# Altium footprint library CS_footprints.PcbLib: 90 footprints (part 2 of 6)
Each footprint in its own frame and in the unit in brackets; x right, y up, seen from the top. Pads: shape width x height; smd on the part's side, far side on the other; paste and mask are expansions set on the pad; w line width, h text height; cw(c..) or ccw(c..) is an arc to the next point about the centre after c.
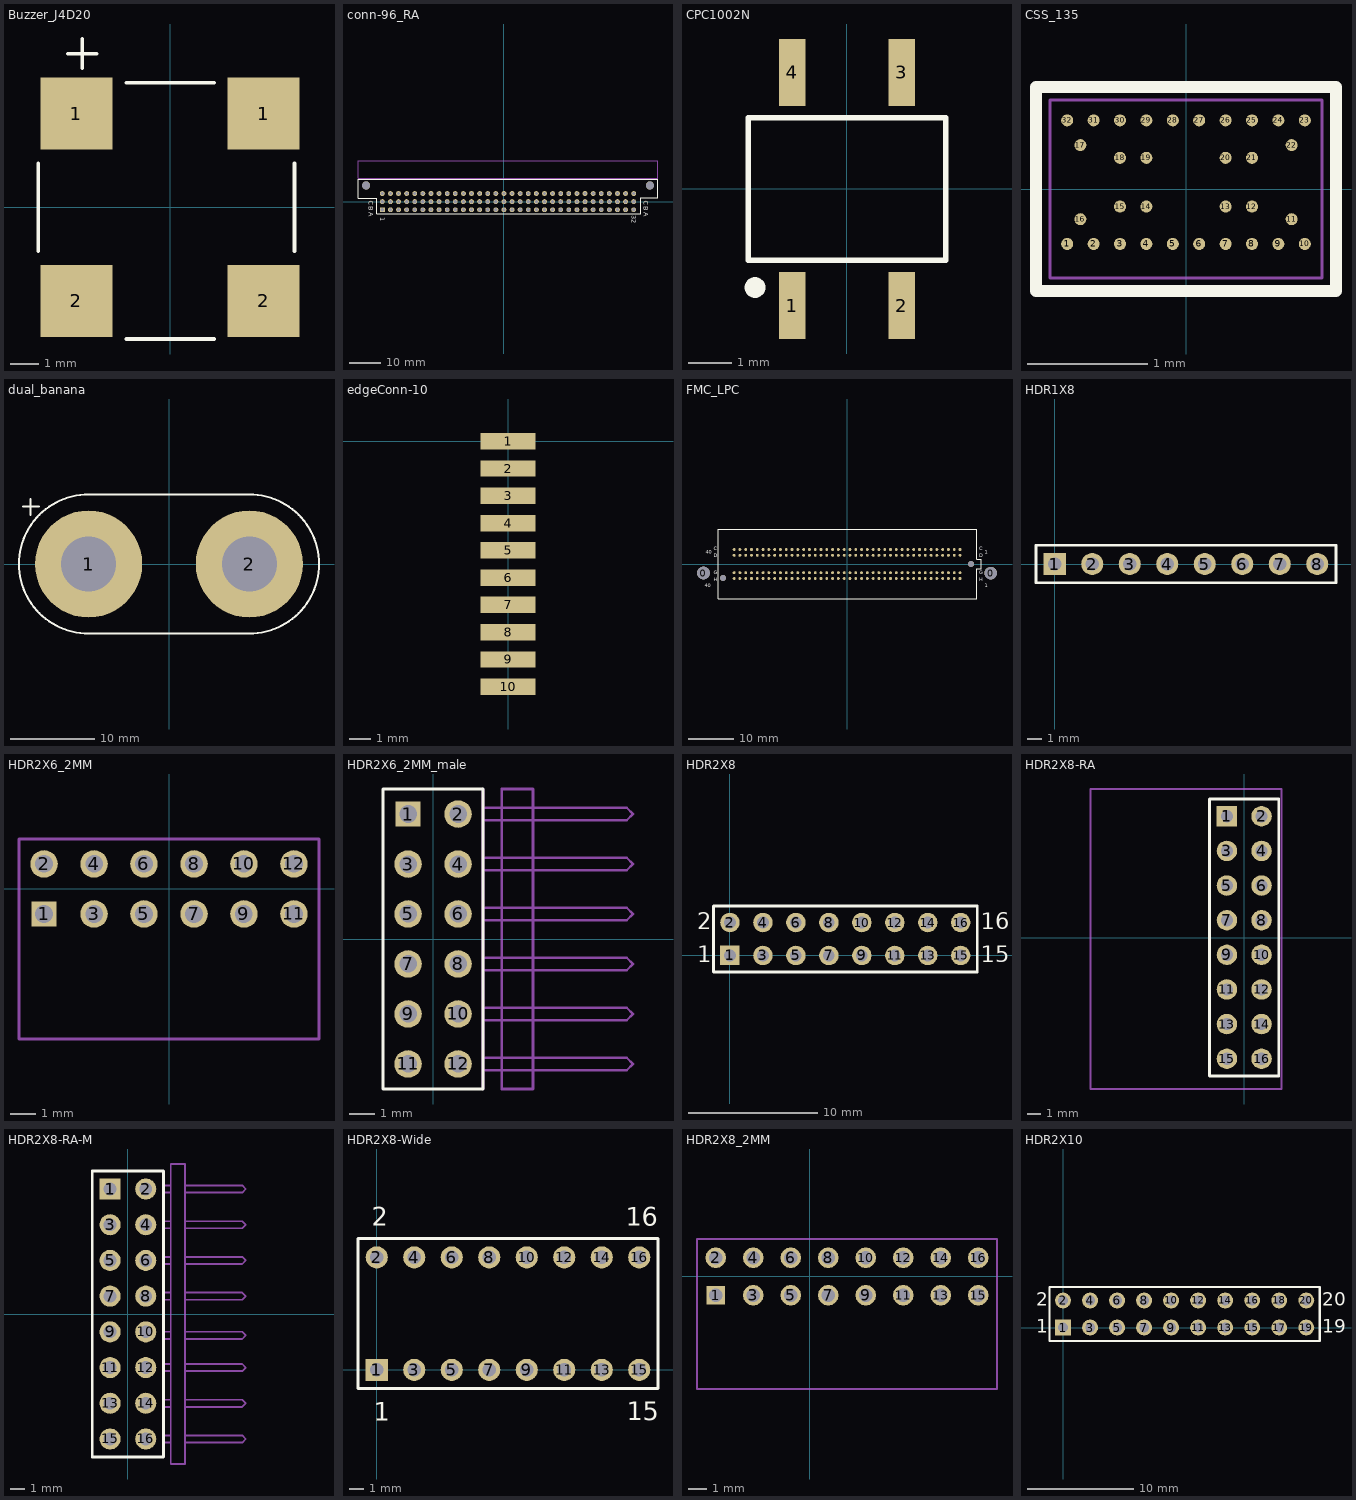
[diagram p1: the footprints below, top view; thin cyan lines are the x and y axes]

## Buzzer_J4D20 [mm] "AUDIO MAGNETIC XDCR 3-5V SMD"
pads (4):
  rect 2.5x2.5 smd: 1(-3.25,3.25) 1(3.25,3.25) 2(-3.25,-3.25) 2(3.25,-3.25)
Top Overlay:
  lines w0.127: -4.572,-1.524 -4.572,1.524 ; -3.556,5.334 -2.54,5.334 ; -3.048,4.826 -3.048,5.842 ; -1.524,-4.572 1.524,-4.572 ; -1.524,4.318 1.524,4.318 ; 4.318,-1.524 4.318,1.524

## conn-96_RA [mil] "96-pin connector, 3 rows, right angle"
pads (98):
  rect 60x60 hole 40: A1(-1500,-100)
  round 60 hole 40: A2(-1400,-100) A3(-1300,-100) A4(-1200,-100) A5(-1100,-100) A6(-1000,-100) A7(-900,-100) A8(-800,-100) A9(-700,-100) A10(-600,-100) A11(-500,-100) A12(-400,-100) A13(-300,-100) A14(-200,-100) A15(-100,-100) A16(0,-100) A17(100,-100) A18(200,-100) A19(300,-100) A20(400,-100) A21(500,-100) A22(600,-100) A23(700,-100) A24(800,-100) A25(900,-100) A26(1000,-100) A27(1100,-100) A28(1200,-100) A29(1300,-100) A30(1400,-100) A31(1500,-100) A32(1600,-100) B1(-1500,0) B2(-1400,0) B3(-1300,0) B4(-1200,0) B5(-1100,0) B6(-1000,0) B7(-900,0) B8(-800,0) B9(-700,0) B10(-600,0) B11(-500,0) B12(-400,0) B13(-300,0) B14(-200,0) B15(-100,0) B16(0,0) B17(100,0) B18(200,0) B19(300,0) B20(400,0) B21(500,0) B22(600,0) B23(700,0) B24(800,0) B25(900,0) B26(1000,0) B27(1100,0) B28(1200,0) B29(1300,0) B30(1400,0) B31(1500,0) B32(1600,0) C1(-1500,100) C2(-1400,100) C3(-1300,100) C4(-1200,100) C5(-1100,100) C6(-1000,100) C7(-900,100) C8(-800,100) C9(-700,100) C10(-600,100) C11(-500,100) C12(-400,100) C13(-300,100) C14(-200,100) C15(-100,100) C16(0,100) C17(100,100) C18(200,100) C19(300,100) C20(400,100) C21(500,100) C22(600,100) C23(700,100) C24(800,100) C25(900,100) C26(1000,100) C27(1100,100) C28(1200,100) C29(1300,100) C30(1400,100) C31(1500,100) C32(1600,100)
  round 100 hole 100: C33(-1700,200) C34(1800,200)
Top Overlay:
  lines w10: -1800,40 -1800,275 1900,275 1900,50 1690,50 1690,-150 1650,-150 -1570,-150 -1570,40 -1800,40
  text "C" at 1726,10 h60
  text "B" at 1726,-59 h60
  text "A" at 1726,-133 h60
  text "A" at -1666,-132 h60
  text "B" at -1666,-58 h60
  text "C" at -1666,11 h60
  text "32" at 1578,-169 h60
  text "1" at -1527,-190 h60
Assembly Top:
  lines w10: 1900,500 1900,290 -1800,290 -1800,502 1900,502

## CPC1002N [mil] "Optocoupler SMT"
pads (4):
  rect 24x61 smd: 1(-50,-106.5) 2(50,-106.5) 3(50,106.5) 4(-50,106.5)
Top Overlay:
  circle w10: c-84,-90 r4.47
  lines w5: -90,-65 90,-65 90,65 -90,65 -90,-65

## CSS_135 [mm] "BGA footprint for CSS135 flip-chip IC"
pads (32):
  round 0.1 smd mask+0.05: 1(-0.99,-0.458) 2(-0.77,-0.458) 3(-0.55,-0.458) 4(-0.33,-0.458) 5(-0.11,-0.458) 6(0.11,-0.458) 7(0.33,-0.458) 8(0.55,-0.458) 9(0.77,-0.458) 10(0.99,-0.458) 11(0.88,-0.252) 12(0.55,-0.146) 13(0.33,-0.146) 14(-0.33,-0.146) 15(-0.55,-0.146) 16(-0.88,-0.252) 17(-0.88,0.366) 18(-0.55,0.26) 19(-0.33,0.26) 20(0.33,0.26) 21(0.55,0.26) 22(0.88,0.366) 23(0.99,0.572) 24(0.77,0.572) 25(0.55,0.572) 26(0.33,0.572) 27(0.11,0.572) 28(-0.11,0.572) 29(-0.33,0.572) 30(-0.55,0.572) 31(-0.77,0.572) 32(-0.99,0.572)
Top Overlay:
  lines w0.102: -1.25,-0.85 1.25,-0.85 1.25,0.85 -1.25,0.85 -1.25,-0.85
Assembly Top:
  lines w0.025: -1.135,-0.74 -1.135,0.74 1.135,0.74 1.135,-0.74 -1.135,-0.74

## dual_banana [mil] "dual banana jack - bolt-on"
pads (2):
  round 500 hole 257 mask+0: 1(-375,0) 2(375,0)
Top Overlay:
  lines w10: -681,269 -608,269 ; -646,229 -646,302 ; -375,-325 cw(c-375,0) -375,325 375,325 cw(c375,0) 375,-325 -375,-325

## edgeConn-10 [mil]
pads (10):
  rect 100x30 smd: 1(0,0) 2(0,-50) 3(0,-100) 4(0,-150) 5(0,-200) 6(0,-250) 7(0,-300) 8(0,-350) 9(0,-400) 10(0,-450)

## FMC_LPC [mm] "FMC low pin count connector that mates to Xilinx zedboard"
pads (164):
  round 2.8 hole 2.8 unplated mask+0: 0(-31.5,-1.985)
  round 1.27 hole 1.27 unplated mask+0: 0(-27.191,-3.048) 0(27.191,0)
  round 2.743 hole 2.743 unplated mask+0: 0(31.5,-1.985)
  round 0.635 smd mask+0: C1(24.765,3.175) C2(23.495,3.175) C3(22.225,3.175) C4(20.955,3.175) C5(19.685,3.175) C6(18.415,3.175) C7(17.145,3.175) C8(15.875,3.175) C9(14.605,3.175) C10(13.335,3.175) C11(12.065,3.175) C12(10.795,3.175) C13(9.525,3.175) C14(8.255,3.175) C15(6.985,3.175) C16(5.715,3.175) C17(4.445,3.175) C18(3.175,3.175) C19(1.905,3.175) C20(0.635,3.175) C21(-0.635,3.175) C22(-1.905,3.175) C23(-3.175,3.175) C24(-4.445,3.175) C25(-5.715,3.175) C26(-6.985,3.175) C27(-8.255,3.175) C28(-9.525,3.175) C29(-10.795,3.175) C30(-12.065,3.175) C31(-13.335,3.175) C32(-14.605,3.175) C33(-15.875,3.175) C34(-17.145,3.175) C35(-18.415,3.175) C36(-19.685,3.175) C37(-20.955,3.175) C38(-22.225,3.175) C39(-23.495,3.175) C40(-24.765,3.175) D1(24.765,1.905) D2(23.495,1.905) D3(22.225,1.905) D4(20.955,1.905) D5(19.685,1.905) D6(18.415,1.905) D7(17.145,1.905) D8(15.875,1.905) D9(14.605,1.905) D10(13.335,1.905) D11(12.065,1.905) D12(10.795,1.905) D13(9.525,1.905) D14(8.255,1.905) D15(6.985,1.905) D16(5.715,1.905) D17(4.445,1.905) D18(3.175,1.905) D19(1.905,1.905) D20(0.635,1.905) D21(-0.635,1.905) D22(-1.905,1.905) D23(-3.175,1.905) D24(-4.445,1.905) D25(-5.715,1.905) D26(-6.985,1.905) D27(-8.255,1.905) D28(-9.525,1.905) D29(-10.795,1.905) D30(-12.065,1.905) D31(-13.335,1.905) D32(-14.605,1.905) D33(-15.875,1.905) D34(-17.145,1.905) D35(-18.415,1.905) D36(-19.685,1.905) D37(-20.955,1.905) D38(-22.225,1.905) D39(-23.495,1.905) D40(-24.765,1.905) G1(24.765,-1.905) G2(23.495,-1.905) G3(22.225,-1.905) G4(20.955,-1.905) G5(19.685,-1.905) G6(18.415,-1.905) G7(17.145,-1.905) G8(15.875,-1.905) G9(14.605,-1.905) G10(13.335,-1.905) G11(12.065,-1.905) G12(10.795,-1.905) G13(9.525,-1.905) G14(8.255,-1.905) G15(6.985,-1.905) G16(5.715,-1.905) G17(4.445,-1.905) G18(3.175,-1.905) G19(1.905,-1.905) G20(0.635,-1.905) G21(-0.635,-1.905) G22(-1.905,-1.905) G23(-3.175,-1.905) G24(-4.445,-1.905) G25(-5.715,-1.905) G26(-6.985,-1.905) G27(-8.255,-1.905) G28(-9.525,-1.905) G29(-10.795,-1.905) G30(-12.065,-1.905) G31(-13.335,-1.905) G32(-14.605,-1.905) G33(-15.875,-1.905) G34(-17.145,-1.905) G35(-18.415,-1.905) G36(-19.685,-1.905) G37(-20.955,-1.905) G38(-22.225,-1.905) G39(-23.495,-1.905) G40(-24.765,-1.905) H1(24.765,-3.175) H2(23.495,-3.175) H3(22.225,-3.175) H4(20.955,-3.175) H5(19.685,-3.175) H6(18.415,-3.175) H7(17.145,-3.175) H8(15.875,-3.175) H9(14.605,-3.175) H10(13.335,-3.175) H11(12.065,-3.175) H12(10.795,-3.175) H13(9.525,-3.175) H14(8.255,-3.175) H15(6.985,-3.175) H16(5.715,-3.175) H17(4.445,-3.175) H18(3.175,-3.175) H19(1.905,-3.175) H20(0.635,-3.175) H21(-0.635,-3.175) H22(-1.905,-3.175) H23(-3.175,-3.175) H24(-4.445,-3.175) H25(-5.715,-3.175) H26(-6.985,-3.175) H27(-8.255,-3.175) H28(-9.525,-3.175) H29(-10.795,-3.175) H30(-12.065,-3.175) H31(-13.335,-3.175) H32(-14.605,-3.175) H33(-15.875,-3.175) H34(-17.145,-3.175) H35(-18.415,-3.175) H36(-19.685,-3.175) H37(-20.955,-3.175) H38(-22.225,-3.175) H39(-23.495,-3.175) H40(-24.765,-3.175)
Top Overlay:
  lines w0.127: -28.194,-7.62 28.448,-7.62 28.448,-1.016 29.464,-1.016 29.464,1.016 28.448,1.016 28.448,7.366 28.448,7.62 -28.194,7.62 -28.194,-7.62
  text "C" at -29.21,3.048 h0.76
  text "D" at -29.21,1.524 h0.76
  text "G" at -29.21,-2.286 h0.76
  text "H" at -29.21,-3.81 h0.76
  text "1" at 30.226,-5.08 h0.76
  text "40" at -31.242,-5.08 h0.76
  text "40" at -30.988,2.286 h0.76
  text "1" at 30.226,2.286 h0.76
  text "H" at 28.956,-3.81 h0.76
  text "G" at 28.956,-2.286 h0.76
  text "D" at 28.956,1.524 h0.76
  text "C" at 28.956,3.048 h0.76

## HDR1X8 [mm] "Connector; Header; 8 Position"
pads (8):
  rect 1.5x1.5 hole 0.9: 1(0,0)
  round 1.5 hole 0.9: 2(2.54,0) 3(5.08,0) 4(7.62,0) 5(10.16,0) 6(12.7,0) 7(15.24,0) 8(17.78,0)
Top Overlay:
  lines w0.2: -1.27,-1.27 -1.27,1.27 19.05,1.27 19.05,-1.27 -1.27,-1.27

## HDR2X6_2MM [mm] "12-pin, 2x6 with 2mm pitch"
pads (12):
  rect 1x1 hole 0.7 mask+0: 1(-5,-1)
  round 1.1 hole 0.7 mask+0: 2(-5,1) 3(-3,-1) 4(-3,1) 5(-1,-1) 6(-1,1) 7(1,-1) 8(1,1) 9(3,-1) 10(3,1) 11(5,-1) 12(5,1)
Assembly Top:
  lines w0.127: -6,-6 6,-6 6,2 -6,2 -6,-6

## HDR2X6_2MM_male [mm] "12-pin, 2x6 with 2mm pitch"
pads (12):
  rect 1x1 hole 0.7 mask+0: 1(-1,5)
  round 1.1 hole 0.7 mask+0: 2(1,5) 3(-1,3) 4(1,3) 5(-1,1) 6(1,1) 7(-1,-1) 8(1,-1) 9(-1,-3) 10(1,-3) 11(-1,-5) 12(1,-5)
Top Overlay:
  lines w0.102: -2,-6 -2,6 2,6 2,-6 -2,-6
Assembly Top:
  lines w0.102: 2,-5.25 7.75,-5.25 8,-5 7.75,-4.75 2,-4.75 ; 2,-3.25 7.75,-3.25 8,-3 7.75,-2.75 2,-2.75 ; 2,-1.25 7.75,-1.25 8,-1 7.75,-0.75 2,-0.75 ; 2,0.75 7.75,0.75 8,1 7.75,1.25 2,1.25 ; 2,2.75 7.75,2.75 8,3 7.75,3.25 2,3.25 ; 2,4.75 7.75,4.75 8,5 7.75,5.25 2,5.25 ; 2.75,-6 4,-6 4,6 2.75,6 2.75,-6
  lines w0.127: 2,-6 2,6

## HDR2X8 [mm] "Connector; Header; 8x2 Position"
pads (16):
  rect 1.5x1.5 hole 0.9: 1(0,0)
  round 1.5 hole 0.9: 2(0,2.54) 3(2.54,0) 4(2.54,2.54) 5(5.08,0) 6(5.08,2.54) 7(7.62,0) 8(7.62,2.54) 9(10.16,0) 10(10.16,2.54) 11(12.7,0) 12(12.7,2.54) 13(15.24,0) 14(15.24,2.54) 15(17.78,0) 16(17.78,2.54)
Top Overlay:
  lines w0.2: -1.27,-1.27 -1.27,3.81 19.05,3.81 19.05,-1.27 -1.27,-1.27
  text "2" at -2.54,2.032 h1.27
  text "1" at -2.54,-0.508 h1.27
  text "15" at 19.304,-0.508 h1.27
  text "16" at 19.304,2.032 h1.27

## HDR2X8-RA [mm] "Connector; Header; 8x2 Position; Right Angle"
pads (16):
  rect 1.5x1.5 hole 0.9: 1(-1.27,8.89)
  round 1.5 hole 0.9: 2(1.27,8.89) 3(-1.27,6.35) 4(1.27,6.35) 5(-1.27,3.81) 6(1.27,3.81) 7(-1.27,1.27) 8(1.27,1.27) 9(-1.27,-1.27) 10(1.27,-1.27) 11(-1.27,-3.81) 12(1.27,-3.81) 13(-1.27,-6.35) 14(1.27,-6.35) 15(-1.27,-8.89) 16(1.27,-8.89)
Top Overlay:
  lines w0.2: -2.54,-10.16 -2.54,10.16 2.54,10.16 2.54,-10.16 -2.54,-10.16
Assembly Top:
  lines w0.127: -11.27,-11.11 -11.27,10.89 2.73,10.89 2.73,-11.11 -11.27,-11.11

## HDR2X8-RA-M [mm] "Connector; Header; 8x2 Position; Right Angle; Male Pins"
pads (16):
  rect 1.5x1.5 hole 0.9: 1(-1.27,8.89)
  round 1.5 hole 0.9: 2(1.27,8.89) 3(-1.27,6.35) 4(1.27,6.35) 5(-1.27,3.81) 6(1.27,3.81) 7(-1.27,1.27) 8(1.27,1.27) 9(-1.27,-1.27) 10(1.27,-1.27) 11(-1.27,-3.81) 12(1.27,-3.81) 13(-1.27,-6.35) 14(1.27,-6.35) 15(-1.27,-8.89) 16(1.27,-8.89)
Top Overlay:
  lines w0.2: -2.54,-10.16 2.54,-10.16 2.54,10.16 -2.54,10.16 -2.54,-10.16
Assembly Top:
  lines w0.127: 2.54,-9.144 3.048,-9.144 ; 2.54,-8.636 3.048,-8.636 ; 2.54,-6.604 3.048,-6.604 ; 2.54,-6.096 3.048,-6.096 ; 2.54,-4.064 3.048,-4.064 ; 2.54,-3.556 3.048,-3.556 ; 2.54,-1.778 3.048,-1.778 ; 2.54,-1.27 3.048,-1.27 ; 2.54,1.016 3.048,1.016 ; 2.54,1.524 3.048,1.524 ; 2.54,3.556 3.048,3.556 ; 2.54,4.064 3.048,4.064 ; 2.54,6.096 3.048,6.096 ; 2.54,6.604 3.048,6.604 ; 2.54,8.636 3.048,8.636 ; 2.54,9.144 3.048,9.144 ; 4.064,-9.144 8.128,-9.144 8.382,-8.89 8.128,-8.636 4.064,-8.636 ; 4.064,-6.604 8.128,-6.604 8.382,-6.35 8.128,-6.096 4.064,-6.096 ; 4.064,-4.064 8.128,-4.064 8.382,-3.81 8.128,-3.556 4.064,-3.556 ; 4.064,-1.778 8.128,-1.778 8.382,-1.524 8.128,-1.27 4.064,-1.27 ; 4.064,1.016 8.128,1.016 8.382,1.27 8.128,1.524 4.064,1.524 ; 4.064,3.556 8.128,3.556 8.382,3.81 8.128,4.064 4.064,4.064 ; 4.064,6.096 8.128,6.096 8.382,6.35 8.128,6.604 4.064,6.604 ; 4.064,8.636 8.128,8.636 8.382,8.89 8.128,9.144 4.064,9.144 ; 3.048,-10.668 3.048,10.668 4.064,10.668 4.064,-10.668 3.048,-10.668

## HDR2X8-Wide [mm] "Connector; Header; 8x2 Position; 0.3\" Row Spacing"
pads (16):
  rect 1.5x1.5 hole 0.9: 1(0,0)
  round 1.5 hole 0.9: 2(0,7.62) 3(2.54,0) 4(2.54,7.62) 5(5.08,0) 6(5.08,7.62) 7(7.62,0) 8(7.62,7.62) 9(10.16,0) 10(10.16,7.62) 11(12.7,0) 12(12.7,7.62) 13(15.24,0) 14(15.24,7.62) 15(17.78,0) 16(17.78,7.62)
Top Overlay:
  lines w0.2: -1.27,8.89 19.05,8.89 19.05,-1.27 -1.27,-1.27 -1.27,8.9
  text "16" at 16.85,9.75 h1.27
  text "15" at 16.95,-3.4 h1.27
  text "1" at -0.2,-3.45 h1.27
  text "2" at -0.35,9.75 h1.27

## HDR2X8_2MM [mm] "16-pin, 2x8 with 2mm pitch"
pads (16):
  rect 1x1 hole 0.7 mask+0: 1(-5,-1)
  round 1.1 hole 0.7 mask+0: 2(-5,1) 3(-3,-1) 4(-3,1) 5(-1,-1) 6(-1,1) 7(1,-1) 8(1,1) 9(3,-1) 10(3,1) 11(5,-1) 12(5,1) 13(7,-1) 14(7,1) 15(9,-1) 16(9,1)
Assembly Top:
  lines w0.127: -6,-6 -6,2 10,2 10,-6 -6,-6

## HDR2X10 [mm] "Connector; Header; 10x2 Position"
pads (20):
  rect 1.5x1.5 hole 0.9: 1(0,0)
  round 1.5 hole 0.9: 2(0,2.54) 3(2.54,0) 4(2.54,2.54) 5(5.08,0) 6(5.08,2.54) 7(7.62,0) 8(7.62,2.54) 9(10.16,0) 10(10.16,2.54) 11(12.7,0) 12(12.7,2.54) 13(15.24,0) 14(15.24,2.54) 15(17.78,0) 16(17.78,2.54) 17(20.32,0) 18(20.32,2.54) 19(22.86,0) 20(22.86,2.54)
Top Overlay:
  lines w0.2: -1.27,-1.27 -1.27,3.81 0.635,3.81 24.13,3.81 24.13,-1.27 0.635,-1.27 -1.27,-1.27
  text "2" at -2.54,2.032 h1.27
  text "1" at -2.54,-0.508 h1.27
  text "19" at 24.384,-0.508 h1.27
  text "20" at 24.384,2.032 h1.27